# Altium schematic symbol library TP4056_Module.SchLib: 1 symbol
Pins are listed as number, name and electrical type; pins without a type are passive.

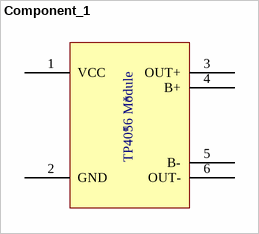
[diagram p0: symbol Component_1]

## Component_1
designator *
footprint TP4056 Module
pins: 1 VCC, 2 GND, 3 OUT+, 4 B+, 5 B-, 6 OUT-
text: TP4056 Module